# Altium footprint library PcbLib.PcbLib: 34 footprints (part 3 of 3)
Each footprint in its own frame and in the unit in brackets; x right, y up, seen from the top. Pads: shape width x height; smd on the part's side, far side on the other; paste and mask are expansions set on the pad; w line width, h text height; cw(c..) or ccw(c..) is an arc to the next point about the centre after c.
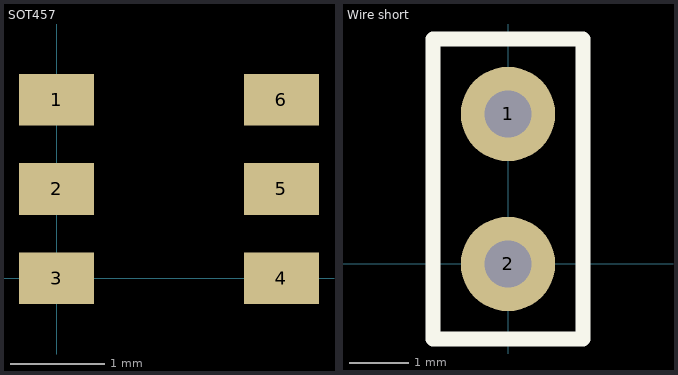
[diagram p2: the footprints below, top view; thin cyan lines are the x and y axes]

## SOT457 [mm]
pads (6):
  rect 0.8x0.55 smd: 1(0,1.9) 2(0,0.95) 3(0,0) 4(2.4,0) 5(2.4,0.95) 6(2.4,1.9)

## Wire short [mm]
pads (2):
  round 1.6 hole 0.8: 1(0,2.54) 2(0,0)
Top Overlay:
  lines w0.25: -1.27,-1.27 -1.27,3.81 1.27,3.81 1.27,-1.27 -1.27,-1.27